# Altium schematic symbol library Connector.SchLib: 9 symbols
Pins are listed as number, name and electrical type; pins without a type are passive.

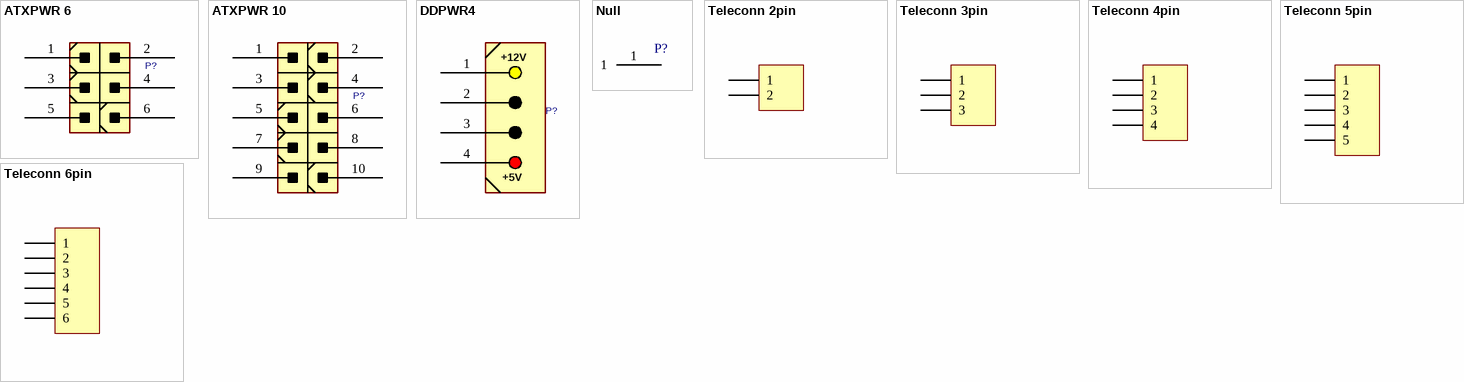
[diagram p0: symbols ATXPWR 6 to Teleconn 6pin]

## ATXPWR 6
designator P?
CONN, ATX POWER, 6 P; DatasheetVersion: 2022
footprint ATX_PWR6R (PCI Express POWER CONNECTOR 6PIN 12V Right Angle)
footprint ATX_PWR6 (Connector; ATX Power; 6 Position)
pins: 1, 2, 3, 4, 5, 6

## ATXPWR 10
designator P?
CONN, ATX POWER, 10 P; DatasheetVersion: 2022
footprint ATX_PWR10 (Connector; ATX Power; 10 Position, TE 4-1775099-3)
pins: 1, 2, 3, 4, 5, 6, 7, 8, 9, 10

## DDPWR4
designator P?
CONN, DP04PR IDE DISK DRIVE 4pin; DatasheetVersion: 2022
footprint DDPWR4_S (DP04PR IDE DISK DRIVE 4pin power connector Straight Power Plug)
footprint DDPWR4_R (DP04PR IDE DISK DRIVE 4pin power connector Right Angle Power Plug)
pins: 1, 2, 3, 4
text: +12V; +5V

## Null
designator P?
DatasheetVersion: 2022
footprint Socket
pins: 1

## Teleconn 2pin
designator P?
Telecommunications; DatasheetVersion: 2022
footprint Teleconn_2pin
pins: 1, 2

## Teleconn 3pin
designator P?
Telecommunications; DatasheetVersion: 2022
footprint Teleconn_3pin
pins: 1, 2, 3

## Teleconn 4pin
designator P?
Telecommunications; DatasheetVersion: 2022
footprint Teleconn_4pin
pins: 1, 2, 3, 4

## Teleconn 5pin
designator P?
Telecommunications; DatasheetVersion: 2022
footprint Teleconn_5pin
pins: 1, 2, 3, 4, 5

## Teleconn 6pin
designator P?
Telecommunications; DatasheetVersion: 2022
footprint Teleconn_6pin
pins: 1, 2, 3, 4, 5, 6